# EAGLE library part IRF7907 (library transistors)
International Rectifier IRF7907 Dual MOSFET in SO-8, standard pinout
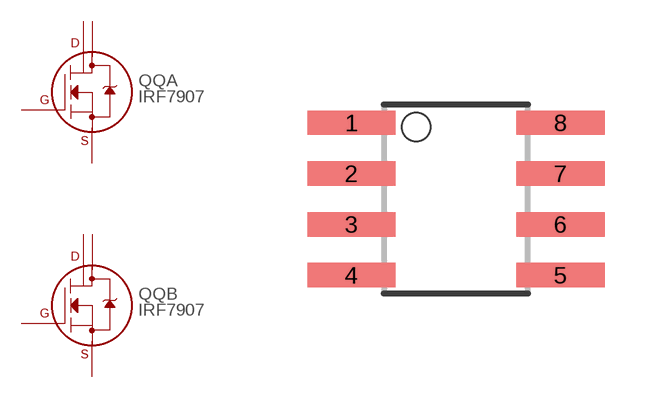
[diagram p1: symbol with the pads of SO-8; footprint SO-8]

Designator prefix QQ; gates A=MOSFET-N-ENH-BDIODE-DD B=MOSFET-N-ENH-BDIODE-DD

## IRF7907  [SO-8]
1  A:D1
2  A:D2
3  A:S
4  A:G  hiz
5  B:S
6  B:G  hiz
7  B:D2
8  B:D1

## Footprint SO-8 (pad centres in mm)
SO-8
smd 2.21 x 0.61: 1 -2.616,1.905; 2 -2.616,0.635; 3 -2.616,-0.635; 4 -2.616,-1.905; 5 2.616,-1.905; 6 2.616,-0.635; 7 2.616,0.635; 8 2.616,1.905